# EAGLE library part MC34063 (library MakBit)
MC3x063A 1.5-A Peak Boost/Buck/Inverting Switching Regulators Wide Input Voltage Range: 3 V to 40 V High Output Switch Current: Up to 1.5 A Adjustable Output Voltage Oscillator Frequency Up to 100 kHz Short-Circuit Current Limiting
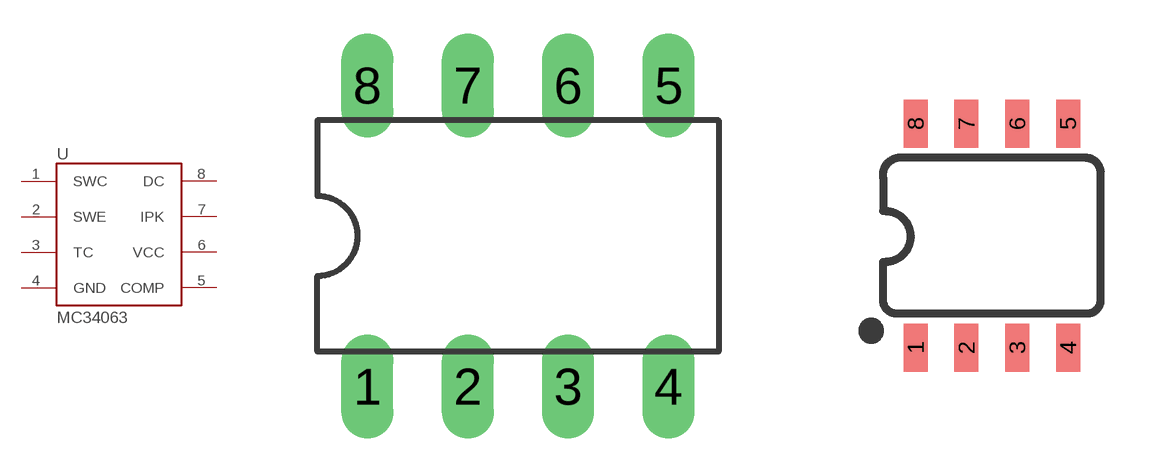
[diagram p24: symbol with the pads of DIL08; footprints DIL08, SO08]

Designator prefix U

## MC34063  [DIL08]
1  SWC  in
2  SWE  in
3  TC  in
4  GND  pwr
5  COMP  in
6  VCC  pwr
7  IPK
8  DC  in

## MC34063SOIC-8  [SO08]
Pads as for DIL08

## Footprint DIL08 (pad centres in mm)
Dual In Line Package
drill 0.813 long: 1 -3.81,-3.81; 2 -1.27,-3.81; 3 1.27,-3.81; 4 3.81,-3.81; 5 3.81,3.81; 6 1.27,3.81; 7 -1.27,3.81; 8 -3.81,3.81

## Footprint SO08 (pad centres in mm)
SOIC -8 Specifications: Pin count: 8 Width: 0.15" Example device(s): MCP2551
smd 0.6 x 1.2: 1 -1.905,-2.8; 2 -0.635,-2.8; 3 0.635,-2.8; 4 1.905,-2.8; 5 1.905,2.8; 6 0.635,2.8; 7 -0.635,2.8; 8 -1.905,2.8